# Altium footprint library PCB1.PcbLib: 103 footprints (part 7 of 7)
Each footprint in its own frame and in the unit in brackets; x right, y up, seen from the top. Pads: shape width x height; smd on the part's side, far side on the other; paste and mask are expansions set on the pad; w line width, h text height; cw(c..) or ccw(c..) is an arc to the next point about the centre after c.
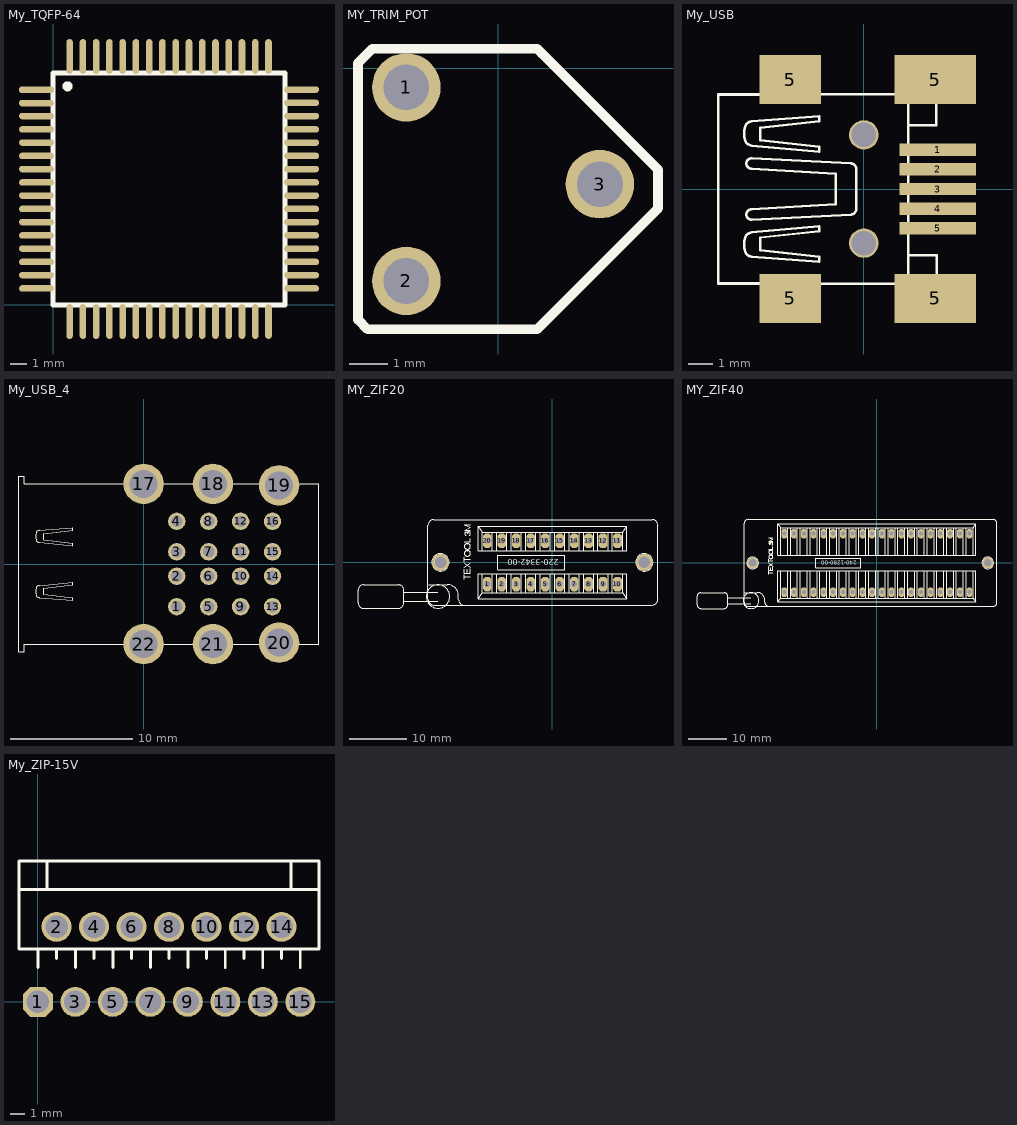
[diagram p6: the footprints below, top view; thin cyan lines are the x and y axes]

## My_TQFP-64 [mm]
pads (64):
  oct 2.1x0.4 smd: 1(-1.022,12.997)
  oval 2.1x0.4 smd: 2(-1.029,12.179) 3(-1.022,11.397) 4(-1.022,10.597) 5(-1.022,9.797) 6(-1.022,8.997) 7(-1.022,8.197) 8(-1.022,7.397) 9(-1.022,6.597) 10(-1.022,5.797) 11(-1.022,4.997) 12(-1.022,4.197) 13(-1.022,3.397) 14(-1.022,2.597) 15(-1.022,1.797) 16(-1.022,0.997) 33(14.978,0.997) 34(14.978,1.797) 35(14.978,2.597) 36(14.978,3.397) 37(14.978,4.197) 38(14.978,4.997) 39(14.978,5.797) 40(14.978,6.597) 41(14.978,7.397) 42(14.978,8.197) 43(14.978,8.997) 44(14.978,9.797) 45(14.978,10.597) 46(14.978,11.397) 47(14.978,12.197) 48(14.978,12.997)
  oval 0.4x2.1 smd: 17(0.978,-1.003) 18(1.778,-1.003) 19(2.578,-1.003) 20(3.378,-1.003) 21(4.178,-1.003) 22(4.978,-1.003) 23(5.778,-1.003) 24(6.578,-1.003) 25(7.378,-1.003) 26(8.178,-1.003) 27(8.978,-1.003) 28(9.778,-1.003) 29(10.578,-1.003) 30(11.378,-1.003) 31(12.178,-1.003) 32(12.978,-1.003) 49(12.978,14.997) 50(12.178,14.997) 51(11.378,14.997) 52(10.578,14.997) 53(9.778,14.997) 54(8.978,14.997) 55(8.178,14.997) 56(7.378,14.997) 57(6.578,14.997) 58(5.778,14.997) 59(4.978,14.997) 60(4.178,14.997) 61(3.378,14.997) 62(2.578,14.997) 63(1.778,14.997) 64(0.978,14.997)
Top Overlay:
  circle w0.305: c0.851,13.195 r0.152
  lines w0.305: -0.022,-0.003 -0.022,13.997 13.978,13.997 13.978,-0.003 -0.022,-0.003

## MY_TRIM_POT [mm]
height 5
pads (3):
  round 1.8 hole 1.2: 1(-2.413,-0.508) 2(-2.413,-5.588) 3(2.667,-3.048)
Top Overlay:
  lines w0.254: -3.683,-6.604 -3.429,-6.858 1.016,-6.858 4.191,-3.683 4.191,-3.048 4.191,-2.667 1.143,0.381 1.016,0.508 -3.302,0.508 -3.683,0.127 -3.683,-6.604

## My_USB [mm]
pads (11):
  rect 3.1x0.5 smd: 1(3,1.6) 2(3,0.8) 3(3,0) 4(3,-0.8) 5(3,-1.6)
  rect 2.5x2 smd: 5(-3,-4.45) 5(-3,4.45)
  rect 3.3x2 smd: 5(2.9,-4.45) 5(2.9,4.45)
  round 1.2 hole 1 unplated: ""(0,-2.2) ""(0,2.2)
Top Overlay:
  lines w0.102: -4.415,-3.841 -5.918,-3.841 ; -4.415,3.841 -5.918,3.842 ; -3.688,-3.841 -5.918,-3.841 ; -3.688,3.842 -5.918,3.842 ; -1.603,-3.847 1.084,-3.847 ; -1.552,3.847 0.983,3.847 ; -0.312,0.831 ccw(c-0.531,0.819) -0.519,1.038 -4.568,1.246 ccw(c-4.569,1.038) -4.776,1.038 ccw(c-4.569,1.038) -4.569,0.831 -1.142,0.623 -1.142,-0.623 -4.569,-0.83 ccw(c-4.569,-1.038) -4.776,-1.038 ccw(c-4.569,-1.038) -4.569,-1.246 -0.519,-1.038 ccw(c-0.531,-0.818) -0.312,-0.83 -0.312,0.831 ; 1.81,-3.847 1.81,3.78 ; 1.81,-3.324 1.81,-2.7 2.957,-2.7 ; 1.81,3.324 1.81,2.599 2.94,2.599 ; 2.94,3.324 2.94,2.599 ; 2.94,3.797 2.94,2.599 ; 2.957,-3.822 2.957,-2.7 ; 2.957,-3.332 2.957,-2.7 ; 3.16,-3.847 -5.923,-3.847 -5.923,3.847 3.16,3.847 ; -5.918,-3.841 -5.918,3.842 ; -5.918,-3.841 -5.918,-3.841 ; -4.828,-2.543 cw(c-3.897,-2.258) -4.828,-1.972 cw(c-4.546,-2.059) -4.569,-1.765 -1.817,-1.505 -1.817,-1.713 -4.205,-1.972 -4.205,-2.491 -1.817,-2.751 -1.817,-2.959 -4.569,-2.751 cw(c-4.546,-2.457) -4.828,-2.543 ; -4.828,1.973 ccw(c-4.546,2.059) -4.569,1.765 -1.817,1.506 -1.817,1.713 -4.205,1.973 -4.205,2.492 -1.817,2.752 -1.817,2.959 -4.569,2.752 ccw(c-4.546,2.458) -4.828,2.544 ccw(c-3.897,2.258) -4.828,1.973

## My_USB_4 [mm]
pads (22):
  round 1.428 hole 0.92: 1(2.71,-3.5) 2(2.71,-1) 3(2.71,1) 4(2.71,3.5) 5(5.33,-3.5) 6(5.33,-1) 7(5.33,1) 8(5.33,3.5) 9(7.95,-3.5) 10(7.95,-1) 11(7.95,1) 12(7.95,3.5) 13(10.57,-3.5) 14(10.57,-1) 15(10.57,1) 16(10.57,3.5)
  round 3.316 hole 2.3: 17(0,6.57) 18(5.68,6.57) 19(11.1,6.45) 20(11.1,-6.45) 21(5.68,-6.57) 22(0,-6.57)
Top Overlay:
  lines w0.102: -10.225,-7.2 -9.775,-7.2 -9.775,-6.6 -1.825,-6.6 1.85,-6.6 3.75,-6.6 7.5,-6.6 9.075,-6.6 13.15,-6.6 14.375,-6.6 14.375,6.6 13.125,6.6 9.225,6.6 7.5,6.6 3.85,6.6 1.975,6.6 -1.925,6.6 -9.775,6.6 -9.775,7.2 -10.225,7.2 -10.225,-7.2 ; -8.828,-2.543 ccw(c-8.546,-2.457) -8.568,-2.751 -5.817,-2.959 -5.817,-2.751 -8.205,-2.491 -8.205,-1.972 -5.817,-1.713 -5.817,-1.505 -8.568,-1.765 ccw(c-8.546,-2.059) -8.828,-1.972 ccw(c-7.897,-2.258) -8.828,-2.543 ; -8.828,1.973 cw(c-7.897,2.258) -8.828,2.544 cw(c-8.546,2.458) -8.568,2.752 -5.817,2.959 -5.817,2.752 -8.205,2.492 -8.205,1.973 -5.817,1.713 -5.817,1.506 -8.568,1.765 cw(c-8.546,2.059) -8.828,1.973

## MY_ZIF20 [mil]
height 472.44
pads (22):
  oct 60x100 hole 40: 1(-450,-150) 2(-350,-150) 3(-250,-150) 4(-150,-150) 5(-50,-150) 6(50,-150) 7(150,-150) 8(250,-150) 9(350,-150) 10(450,-150) 11(450,150) 12(350,150) 13(250,150) 14(150,150) 15(50,150) 16(-50,150) 17(-150,150) 18(-250,150) 19(-350,150) 20(-450,150)
  round 118.11 hole 78.74 unplated: ""(-774.02,0) ""(636.22,0)
Top Overlay:
  drawing of 157 lines, arcs and shapes, not listed
  text "220-3342-00" at 45,20 h40

## MY_ZIF40 [mil]
height 472.44
pads (42):
  oct 60x100 hole 40: 1(-950,-300) 2(-850,-300) 3(-750,-300) 4(-650,-300) 5(-550,-300) 6(-450,-300) 7(-350,-300) 8(-250,-300) 9(-150,-300) 10(-50,-300) 11(50,-300) 12(150,-300) 13(250,-300) 14(350,-300) 15(450,-300) 16(550,-300) 17(650,-300) 18(750,-300) 19(850,-300) 20(950,-300) 21(950,300) 22(850,300) 23(750,300) 24(650,300) 25(550,300) 26(450,300) 27(350,300) 28(250,300) 29(150,300) 30(50,300) 31(-50,300) 32(-150,300) 33(-250,300) 34(-350,300) 35(-450,300) 36(-550,300) 37(-650,300) 38(-750,300) 39(-850,300) 40(-950,300)
  round 118.11 hole 78.74 unplated: ""(-1274.02,0) ""(1136.22,0)
Top Overlay:
  drawing of 197 lines, arcs and shapes, not listed
  text "240-1280-00" at -205,20 h40

## My_ZIP-15V [mil]
pads (15):
  oct 80x80 hole 60: 1(-0.5,-0.5)
  round 80 hole 60: 2(49.5,199.5) 3(99.5,-0.5) 4(149.5,199.5) 5(199.5,-0.5) 6(249.5,199.5) 7(299.5,-0.5) 8(349.5,199.5) 9(399.5,-0.5) 10(449.5,199.5) 11(499.5,-0.5) 12(549.5,199.5) 13(599.5,-0.5) 14(649.5,199.5) 15(699.5,-0.5)
Top Overlay:
  lines w7.87: -50.66,140.41 -50.5,282.83 -50.5,374.5 749.5,374.5 749.5,299.5 ; -50.5,140.41 749.5,140.41 749.5,299.5 ; -50.5,299.5 749.5,299.5 ; -0.5,90.41 -0.5,140.41 ; 24.5,299.5 24.5,374.5 ; 49.5,115.41 49.5,140.41 ; 99.5,90.41 99.5,140.41 ; 149.5,115.41 149.5,140.41 ; 199.5,90.41 199.5,140.41 ; 249.5,115.41 249.5,140.41 ; 299.5,90.41 299.5,140.41 ; 349.5,115.41 349.5,140.41 ; 399.5,90.41 399.5,140.41 ; 449.5,115.41 449.5,140.41 ; 499.5,90.41 499.5,140.41 ; 549.5,115.41 549.5,140.41 ; 599.5,90.41 599.5,140.41 ; 649.5,115.41 649.5,140.41 ; 674.5,299.5 674.5,374.5 ; 699.5,90.41 699.5,140.41